# Altium integrated library ISSI SRAM Synchronous SRAM Automotive.IntLib: 614 symbols (part 55 of 71)
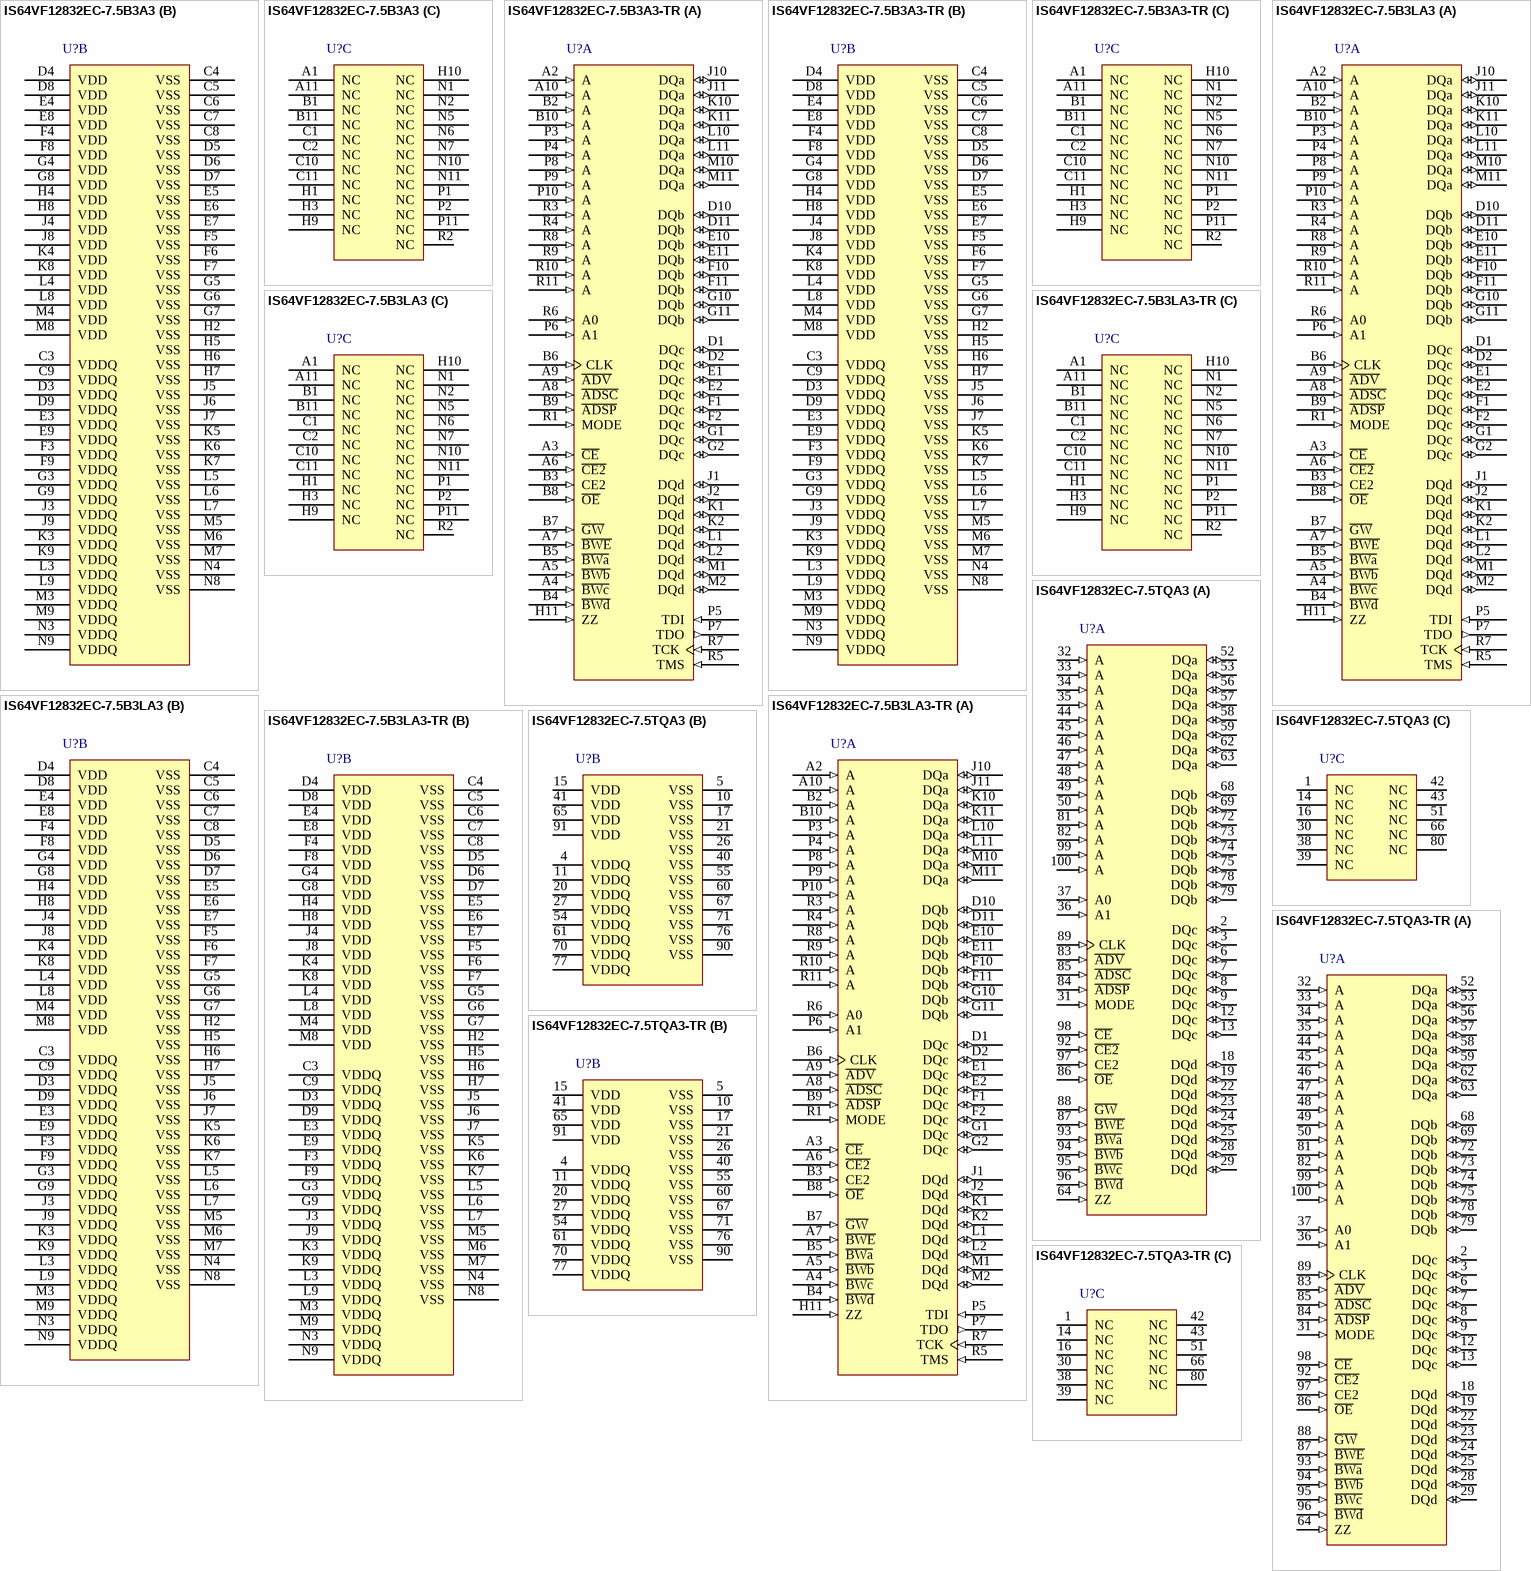
[diagram p175: symbols IS64VF12832EC-7.5B3A3 to IS64VF12832EC-7.5TQA3-TR]

## IS64VF12832EC-7.5B3A3
designator U?
4 M Synchronous Flow Through SRAM with ECC, 128 K x 32, -40 to 125 degC, 165-Pin BGA (TF-BGA-165); Manufacturer: Integrated Silicon Solution Inc (ISSI); PartNumber: IS64VF12832EC-7.5B3A3; Density: 4M; Packing: Tray / Tube; Vcc: 2.5 V; DatasheetVersion: Rev. A; PackageVersion: Rev. B, 08/2008; PackageReference: TF-BGA-165; PackageDescription: 165-Pin 13 x 15 mm TF-BGA, Pitch 1 mm; Organization: 128Kx32; VccQ: 2.5 V; Mounting Technology: Surface Mount; ComponentLink1Description: Manufacturer URL; ComponentLink1URL: http://www.issi.com/US/Index.shtml; ComponentLink2Description: Datasheet; ComponentLink2URL: http://www.issi.com/WW/pdf/61-64LF_VF12832EC-12836EC-25618EC.pdf; ComponentLink3Description: Package Specification; ComponentLink3URL: http://www.issi.com/WW/pdf/61NLP_NVP25636A_51218A.pdf
footprint ISSI-TF-BGA-165-13000X15000DE (BGA, 165-Balls, Body 15x13mm, Pitch 1mm)
part A pins: A2 A (in) "Synchronous Address Input", A3 ~{CE} (in) "Synchronous Chip Enable", A4 ~{BWc} (in) "Synchronous Byte Write Input", A5 ~{BWb} (in) "Synchronous Byte Write Input", A6 ~{CE2} (in) "Synchronous Chip Enable", A7 ~{BWE} (in) "Synchronous Byte Write Enable", A8 ~{ADSC} (in) "Synchronous Address Status Controller", A9 ~{ADV} (in) "Synchronous Burst Address Advance", A10 A (in) "Synchronous Address Input", B2 A (in) "Synchronous Address Input", B3 CE2 (in) "Synchronous Chip Enable", B4 ~{BWd} (in) "Synchronous Byte Write Input", B5 ~{BWa} (in) "Synchronous Byte Write Input", B6 CLK (in) "Synchronous Clock", B7 ~{GW} (in) "Synchronous Global Write Enable", B8 ~{OE} (in) "Asynchronous Output Enable", B9 ~{ADSP} (in) "Synchronous Address Status Processor", B10 A (in) "Synchronous Address Input", D1 DQc (io) "Synchronous Data Input/Output", D2 DQc (io) "Synchronous Data Input/Output", D10 DQb (io) "Synchronous Data Input/Output", D11 DQb (io) "Synchronous Data Input/Output", E1 DQc (io) "Synchronous Data Input/Output", E2 DQc (io) "Synchronous Data Input/Output", E10 DQb (io) "Synchronous Data Input/Output", E11 DQb (io) "Synchronous Data Input/Output", F1 DQc (io) "Synchronous Data Input/Output", F2 DQc (io) "Synchronous Data Input/Output", F10 DQb (io) "Synchronous Data Input/Output", F11 DQb (io) "Synchronous Data Input/Output", G1 DQc (io) "Synchronous Data Input/Output", G2 DQc (io) "Synchronous Data Input/Output", G10 DQb (io) "Synchronous Data Input/Output", G11 DQb (io) "Synchronous Data Input/Output", H11 ZZ (in) "Asynchronous Power Sleep Mode", J1 DQd (io) "Synchronous Data Input/Output", J2 DQd (io) "Synchronous Data Input/Output", J10 DQa (io) "Synchronous Data Input/Output", J11 DQa (io) "Synchronous Data Input/Output", K1 DQd (io) "Synchronous Data Input/Output", K2 DQd (io) "Synchronous Data Input/Output", K10 DQa (io) "Synchronous Data Input/Output", K11 DQa (io) "Synchronous Data Input/Output", L1 DQd (io) "Synchronous Data Input/Output", L2 DQd (io) "Synchronous Data Input/Output", L10 DQa (io) "Synchronous Data Input/Output", L11 DQa (io) "Synchronous Data Input/Output", M1 DQd (io) "Synchronous Data Input/Output", M2 DQd (io) "Synchronous Data Input/Output", M10 DQa (io) "Synchronous Data Input/Output", M11 DQa (io) "Synchronous Data Input/Output", P3 A (in) "Synchronous Address Input", P4 A (in) "Synchronous Address Input", P5 TDI (in) "JTAG Pins", P6 A1 (in) "Synchronous Burst Address Input", P7 TDO (out) "JTAG Pins", P8 A (in) "Synchronous Address Input", P9 A (in) "Synchronous Address Input", P10 A (in) "Synchronous Address Input", R1 MODE (in) "Burst Sequence Selection", R3 A (in) "Synchronous Address Input", R4 A (in) "Synchronous Address Input", R5 TMS (in) "JTAG Pins", R6 A0 (in) "Synchronous Burst Address Input", R7 TCK (in) "JTAG Pins", R8 A (in) "Synchronous Address Input", R9 A (in) "Synchronous Address Input", R10 A (in) "Synchronous Address Input", R11 A (in) "Synchronous Address Input"
part B pins: C3 VDDQ (power) "I/O Power Supply", C4 VSS (power) "Ground", C5 VSS (power) "Ground", C6 VSS (power) "Ground", C7 VSS (power) "Ground", C8 VSS (power) "Ground", C9 VDDQ (power) "I/O Power Supply", D3 VDDQ (power) "I/O Power Supply", D4 VDD (power) "Power Supply", D5 VSS (power) "Ground", D6 VSS (power) "Ground", D7 VSS (power) "Ground", D8 VDD (power) "Power Supply", D9 VDDQ (power) "I/O Power Supply", E3 VDDQ (power) "I/O Power Supply", E4 VDD (power) "Power Supply", E5 VSS (power) "Ground", E6 VSS (power) "Ground", E7 VSS (power) "Ground", E8 VDD (power) "Power Supply", E9 VDDQ (power) "I/O Power Supply", F3 VDDQ (power) "I/O Power Supply", F4 VDD (power) "Power Supply", F5 VSS (power) "Ground", F6 VSS (power) "Ground", F7 VSS (power) "Ground", F8 VDD (power) "Power Supply", F9 VDDQ (power) "I/O Power Supply", G3 VDDQ (power) "I/O Power Supply", G4 VDD (power) "Power Supply", G5 VSS (power) "Ground", G6 VSS (power) "Ground", G7 VSS (power) "Ground", G8 VDD (power) "Power Supply", G9 VDDQ (power) "I/O Power Supply", H2 VSS (power) "Ground", H4 VDD (power) "Power Supply", H5 VSS (power) "Ground", H6 VSS (power) "Ground", H7 VSS (power) "Ground", H8 VDD (power) "Power Supply", J3 VDDQ (power) "I/O Power Supply", J4 VDD (power) "Power Supply", J5 VSS (power) "Ground", J6 VSS (power) "Ground", J7 VSS (power) "Ground", J8 VDD (power) "Power Supply", J9 VDDQ (power) "I/O Power Supply", K3 VDDQ (power) "I/O Power Supply", K4 VDD (power) "Power Supply", K5 VSS (power) "Ground", K6 VSS (power) "Ground", K7 VSS (power) "Ground", K8 VDD (power) "Power Supply", K9 VDDQ (power) "I/O Power Supply", L3 VDDQ (power) "I/O Power Supply", L4 VDD (power) "Power Supply", L5 VSS (power) "Ground", L6 VSS (power) "Ground", L7 VSS (power) "Ground", L8 VDD (power) "Power Supply", L9 VDDQ (power) "I/O Power Supply", M3 VDDQ (power) "I/O Power Supply", M4 VDD (power) "Power Supply", M5 VSS (power) "Ground", M6 VSS (power) "Ground", M7 VSS (power) "Ground", M8 VDD (power) "Power Supply", M9 VDDQ (power) "I/O Power Supply", N3 VDDQ (power) "I/O Power Supply", N4 VSS (power) "Ground", N8 VSS (power) "Ground", N9 VDDQ (power) "I/O Power Supply"
part C pins: A1 NC "No Connect", A11 NC "No Connect", B1 NC "No Connect", B11 NC "No Connect", C1 NC "No Connect", C2 NC "No Connect", C10 NC "No Connect", C11 NC "No Connect", H1 NC "No Connect", H3 NC "No Connect", H9 NC "No Connect", H10 NC "No Connect", N1 NC "No Connect", N2 NC "No Connect", N5 NC "No Connect", N6 NC "No Connect", N7 NC "No Connect", N10 NC "No Connect", N11 NC "No Connect", P1 NC "No Connect", P2 NC "No Connect", P11 NC "No Connect", R2 NC "No Connect"

## IS64VF12832EC-7.5B3A3-TR
designator U?
4 M Synchronous Flow Through SRAM with ECC, 128 K x 32, -40 to 125 degC, 165-Pin BGA (TF-BGA-165); Manufacturer: Integrated Silicon Solution Inc (ISSI); PartNumber: IS64VF12832EC-7.5B3A3-TR; Density: 4M; Packing: Tape & Reel; Vcc: 2.5 V; DatasheetVersion: Rev. A; PackageVersion: Rev. B, 08/2008; PackageReference: TF-BGA-165; PackageDescription: 165-Pin 13 x 15 mm TF-BGA, Pitch 1 mm; Organization: 128Kx32; VccQ: 2.5 V; Mounting Technology: Surface Mount; ComponentLink1Description: Manufacturer URL; ComponentLink1URL: http://www.issi.com/US/Index.shtml; ComponentLink2Description: Datasheet; ComponentLink2URL: http://www.issi.com/WW/pdf/61-64LF_VF12832EC-12836EC-25618EC.pdf; ComponentLink3Description: Package Specification; ComponentLink3URL: http://www.issi.com/WW/pdf/61NLP_NVP25636A_51218A.pdf
footprint ISSI-TF-BGA-165-13000X15000DE (BGA, 165-Balls, Body 15x13mm, Pitch 1mm)
part A pins: A2 A (in) "Synchronous Address Input", A3 ~{CE} (in) "Synchronous Chip Enable", A4 ~{BWc} (in) "Synchronous Byte Write Input", A5 ~{BWb} (in) "Synchronous Byte Write Input", A6 ~{CE2} (in) "Synchronous Chip Enable", A7 ~{BWE} (in) "Synchronous Byte Write Enable", A8 ~{ADSC} (in) "Synchronous Address Status Controller", A9 ~{ADV} (in) "Synchronous Burst Address Advance", A10 A (in) "Synchronous Address Input", B2 A (in) "Synchronous Address Input", B3 CE2 (in) "Synchronous Chip Enable", B4 ~{BWd} (in) "Synchronous Byte Write Input", B5 ~{BWa} (in) "Synchronous Byte Write Input", B6 CLK (in) "Synchronous Clock", B7 ~{GW} (in) "Synchronous Global Write Enable", B8 ~{OE} (in) "Asynchronous Output Enable", B9 ~{ADSP} (in) "Synchronous Address Status Processor", B10 A (in) "Synchronous Address Input", D1 DQc (io) "Synchronous Data Input/Output", D2 DQc (io) "Synchronous Data Input/Output", D10 DQb (io) "Synchronous Data Input/Output", D11 DQb (io) "Synchronous Data Input/Output", E1 DQc (io) "Synchronous Data Input/Output", E2 DQc (io) "Synchronous Data Input/Output", E10 DQb (io) "Synchronous Data Input/Output", E11 DQb (io) "Synchronous Data Input/Output", F1 DQc (io) "Synchronous Data Input/Output", F2 DQc (io) "Synchronous Data Input/Output", F10 DQb (io) "Synchronous Data Input/Output", F11 DQb (io) "Synchronous Data Input/Output", G1 DQc (io) "Synchronous Data Input/Output", G2 DQc (io) "Synchronous Data Input/Output", G10 DQb (io) "Synchronous Data Input/Output", G11 DQb (io) "Synchronous Data Input/Output", H11 ZZ (in) "Asynchronous Power Sleep Mode", J1 DQd (io) "Synchronous Data Input/Output", J2 DQd (io) "Synchronous Data Input/Output", J10 DQa (io) "Synchronous Data Input/Output", J11 DQa (io) "Synchronous Data Input/Output", K1 DQd (io) "Synchronous Data Input/Output", K2 DQd (io) "Synchronous Data Input/Output", K10 DQa (io) "Synchronous Data Input/Output", K11 DQa (io) "Synchronous Data Input/Output", L1 DQd (io) "Synchronous Data Input/Output", L2 DQd (io) "Synchronous Data Input/Output", L10 DQa (io) "Synchronous Data Input/Output", L11 DQa (io) "Synchronous Data Input/Output", M1 DQd (io) "Synchronous Data Input/Output", M2 DQd (io) "Synchronous Data Input/Output", M10 DQa (io) "Synchronous Data Input/Output", M11 DQa (io) "Synchronous Data Input/Output", P3 A (in) "Synchronous Address Input", P4 A (in) "Synchronous Address Input", P5 TDI (in) "JTAG Pins", P6 A1 (in) "Synchronous Burst Address Input", P7 TDO (out) "JTAG Pins", P8 A (in) "Synchronous Address Input", P9 A (in) "Synchronous Address Input", P10 A (in) "Synchronous Address Input", R1 MODE (in) "Burst Sequence Selection", R3 A (in) "Synchronous Address Input", R4 A (in) "Synchronous Address Input", R5 TMS (in) "JTAG Pins", R6 A0 (in) "Synchronous Burst Address Input", R7 TCK (in) "JTAG Pins", R8 A (in) "Synchronous Address Input", R9 A (in) "Synchronous Address Input", R10 A (in) "Synchronous Address Input", R11 A (in) "Synchronous Address Input"
part B pins: C3 VDDQ (power) "I/O Power Supply", C4 VSS (power) "Ground", C5 VSS (power) "Ground", C6 VSS (power) "Ground", C7 VSS (power) "Ground", C8 VSS (power) "Ground", C9 VDDQ (power) "I/O Power Supply", D3 VDDQ (power) "I/O Power Supply", D4 VDD (power) "Power Supply", D5 VSS (power) "Ground", D6 VSS (power) "Ground", D7 VSS (power) "Ground", D8 VDD (power) "Power Supply", D9 VDDQ (power) "I/O Power Supply", E3 VDDQ (power) "I/O Power Supply", E4 VDD (power) "Power Supply", E5 VSS (power) "Ground", E6 VSS (power) "Ground", E7 VSS (power) "Ground", E8 VDD (power) "Power Supply", E9 VDDQ (power) "I/O Power Supply", F3 VDDQ (power) "I/O Power Supply", F4 VDD (power) "Power Supply", F5 VSS (power) "Ground", F6 VSS (power) "Ground", F7 VSS (power) "Ground", F8 VDD (power) "Power Supply", F9 VDDQ (power) "I/O Power Supply", G3 VDDQ (power) "I/O Power Supply", G4 VDD (power) "Power Supply", G5 VSS (power) "Ground", G6 VSS (power) "Ground", G7 VSS (power) "Ground", G8 VDD (power) "Power Supply", G9 VDDQ (power) "I/O Power Supply", H2 VSS (power) "Ground", H4 VDD (power) "Power Supply", H5 VSS (power) "Ground", H6 VSS (power) "Ground", H7 VSS (power) "Ground", H8 VDD (power) "Power Supply", J3 VDDQ (power) "I/O Power Supply", J4 VDD (power) "Power Supply", J5 VSS (power) "Ground", J6 VSS (power) "Ground", J7 VSS (power) "Ground", J8 VDD (power) "Power Supply", J9 VDDQ (power) "I/O Power Supply", K3 VDDQ (power) "I/O Power Supply", K4 VDD (power) "Power Supply", K5 VSS (power) "Ground", K6 VSS (power) "Ground", K7 VSS (power) "Ground", K8 VDD (power) "Power Supply", K9 VDDQ (power) "I/O Power Supply", L3 VDDQ (power) "I/O Power Supply", L4 VDD (power) "Power Supply", L5 VSS (power) "Ground", L6 VSS (power) "Ground", L7 VSS (power) "Ground", L8 VDD (power) "Power Supply", L9 VDDQ (power) "I/O Power Supply", M3 VDDQ (power) "I/O Power Supply", M4 VDD (power) "Power Supply", M5 VSS (power) "Ground", M6 VSS (power) "Ground", M7 VSS (power) "Ground", M8 VDD (power) "Power Supply", M9 VDDQ (power) "I/O Power Supply", N3 VDDQ (power) "I/O Power Supply", N4 VSS (power) "Ground", N8 VSS (power) "Ground", N9 VDDQ (power) "I/O Power Supply"
part C pins: A1 NC "No Connect", A11 NC "No Connect", B1 NC "No Connect", B11 NC "No Connect", C1 NC "No Connect", C2 NC "No Connect", C10 NC "No Connect", C11 NC "No Connect", H1 NC "No Connect", H3 NC "No Connect", H9 NC "No Connect", H10 NC "No Connect", N1 NC "No Connect", N2 NC "No Connect", N5 NC "No Connect", N6 NC "No Connect", N7 NC "No Connect", N10 NC "No Connect", N11 NC "No Connect", P1 NC "No Connect", P2 NC "No Connect", P11 NC "No Connect", R2 NC "No Connect"

## IS64VF12832EC-7.5B3LA3
designator U?
4 M Synchronous Flow Through SRAM with ECC, 128 K x 32, -40 to 125 degC, 165-Pin BGA (TF-BGA-165), Pb-Free; Manufacturer: Integrated Silicon Solution Inc (ISSI); PartNumber: IS64VF12832EC-7.5B3LA3; Density: 4M; Packing: Tray / Tube; Vcc: 2.5 V; DatasheetVersion: Rev. A; PackageVersion: Rev. B, 08/2008; PackageReference: TF-BGA-165; PackageDescription: 165-Pin 13 x 15 mm TF-BGA, Pitch 1 mm; Organization: 128Kx32; RoHS: Pb-Free; VccQ: 2.5 V; Mounting Technology: Surface Mount; ComponentLink1Description: Manufacturer URL; ComponentLink1URL: http://www.issi.com/US/Index.shtml; ComponentLink2Description: Datasheet; ComponentLink2URL: http://www.issi.com/WW/pdf/61-64LF_VF12832EC-12836EC-25618EC.pdf; ComponentLink3Description: Package Specification; ComponentLink3URL: http://www.issi.com/WW/pdf/61NLP_NVP25636A_51218A.pdf
footprint ISSI-TF-BGA-165-13000X15000DE (BGA, 165-Balls, Body 15x13mm, Pitch 1mm)
part A pins: A2 A (in) "Synchronous Address Input", A3 ~{CE} (in) "Synchronous Chip Enable", A4 ~{BWc} (in) "Synchronous Byte Write Input", A5 ~{BWb} (in) "Synchronous Byte Write Input", A6 ~{CE2} (in) "Synchronous Chip Enable", A7 ~{BWE} (in) "Synchronous Byte Write Enable", A8 ~{ADSC} (in) "Synchronous Address Status Controller", A9 ~{ADV} (in) "Synchronous Burst Address Advance", A10 A (in) "Synchronous Address Input", B2 A (in) "Synchronous Address Input", B3 CE2 (in) "Synchronous Chip Enable", B4 ~{BWd} (in) "Synchronous Byte Write Input", B5 ~{BWa} (in) "Synchronous Byte Write Input", B6 CLK (in) "Synchronous Clock", B7 ~{GW} (in) "Synchronous Global Write Enable", B8 ~{OE} (in) "Asynchronous Output Enable", B9 ~{ADSP} (in) "Synchronous Address Status Processor", B10 A (in) "Synchronous Address Input", D1 DQc (io) "Synchronous Data Input/Output", D2 DQc (io) "Synchronous Data Input/Output", D10 DQb (io) "Synchronous Data Input/Output", D11 DQb (io) "Synchronous Data Input/Output", E1 DQc (io) "Synchronous Data Input/Output", E2 DQc (io) "Synchronous Data Input/Output", E10 DQb (io) "Synchronous Data Input/Output", E11 DQb (io) "Synchronous Data Input/Output", F1 DQc (io) "Synchronous Data Input/Output", F2 DQc (io) "Synchronous Data Input/Output", F10 DQb (io) "Synchronous Data Input/Output", F11 DQb (io) "Synchronous Data Input/Output", G1 DQc (io) "Synchronous Data Input/Output", G2 DQc (io) "Synchronous Data Input/Output", G10 DQb (io) "Synchronous Data Input/Output", G11 DQb (io) "Synchronous Data Input/Output", H11 ZZ (in) "Asynchronous Power Sleep Mode", J1 DQd (io) "Synchronous Data Input/Output", J2 DQd (io) "Synchronous Data Input/Output", J10 DQa (io) "Synchronous Data Input/Output", J11 DQa (io) "Synchronous Data Input/Output", K1 DQd (io) "Synchronous Data Input/Output", K2 DQd (io) "Synchronous Data Input/Output", K10 DQa (io) "Synchronous Data Input/Output", K11 DQa (io) "Synchronous Data Input/Output", L1 DQd (io) "Synchronous Data Input/Output", L2 DQd (io) "Synchronous Data Input/Output", L10 DQa (io) "Synchronous Data Input/Output", L11 DQa (io) "Synchronous Data Input/Output", M1 DQd (io) "Synchronous Data Input/Output", M2 DQd (io) "Synchronous Data Input/Output", M10 DQa (io) "Synchronous Data Input/Output", M11 DQa (io) "Synchronous Data Input/Output", P3 A (in) "Synchronous Address Input", P4 A (in) "Synchronous Address Input", P5 TDI (in) "JTAG Pins", P6 A1 (in) "Synchronous Burst Address Input", P7 TDO (out) "JTAG Pins", P8 A (in) "Synchronous Address Input", P9 A (in) "Synchronous Address Input", P10 A (in) "Synchronous Address Input", R1 MODE (in) "Burst Sequence Selection", R3 A (in) "Synchronous Address Input", R4 A (in) "Synchronous Address Input", R5 TMS (in) "JTAG Pins", R6 A0 (in) "Synchronous Burst Address Input", R7 TCK (in) "JTAG Pins", R8 A (in) "Synchronous Address Input", R9 A (in) "Synchronous Address Input", R10 A (in) "Synchronous Address Input", R11 A (in) "Synchronous Address Input"
part B pins: C3 VDDQ (power) "I/O Power Supply", C4 VSS (power) "Ground", C5 VSS (power) "Ground", C6 VSS (power) "Ground", C7 VSS (power) "Ground", C8 VSS (power) "Ground", C9 VDDQ (power) "I/O Power Supply", D3 VDDQ (power) "I/O Power Supply", D4 VDD (power) "Power Supply", D5 VSS (power) "Ground", D6 VSS (power) "Ground", D7 VSS (power) "Ground", D8 VDD (power) "Power Supply", D9 VDDQ (power) "I/O Power Supply", E3 VDDQ (power) "I/O Power Supply", E4 VDD (power) "Power Supply", E5 VSS (power) "Ground", E6 VSS (power) "Ground", E7 VSS (power) "Ground", E8 VDD (power) "Power Supply", E9 VDDQ (power) "I/O Power Supply", F3 VDDQ (power) "I/O Power Supply", F4 VDD (power) "Power Supply", F5 VSS (power) "Ground", F6 VSS (power) "Ground", F7 VSS (power) "Ground", F8 VDD (power) "Power Supply", F9 VDDQ (power) "I/O Power Supply", G3 VDDQ (power) "I/O Power Supply", G4 VDD (power) "Power Supply", G5 VSS (power) "Ground", G6 VSS (power) "Ground", G7 VSS (power) "Ground", G8 VDD (power) "Power Supply", G9 VDDQ (power) "I/O Power Supply", H2 VSS (power) "Ground", H4 VDD (power) "Power Supply", H5 VSS (power) "Ground", H6 VSS (power) "Ground", H7 VSS (power) "Ground", H8 VDD (power) "Power Supply", J3 VDDQ (power) "I/O Power Supply", J4 VDD (power) "Power Supply", J5 VSS (power) "Ground", J6 VSS (power) "Ground", J7 VSS (power) "Ground", J8 VDD (power) "Power Supply", J9 VDDQ (power) "I/O Power Supply", K3 VDDQ (power) "I/O Power Supply", K4 VDD (power) "Power Supply", K5 VSS (power) "Ground", K6 VSS (power) "Ground", K7 VSS (power) "Ground", K8 VDD (power) "Power Supply", K9 VDDQ (power) "I/O Power Supply", L3 VDDQ (power) "I/O Power Supply", L4 VDD (power) "Power Supply", L5 VSS (power) "Ground", L6 VSS (power) "Ground", L7 VSS (power) "Ground", L8 VDD (power) "Power Supply", L9 VDDQ (power) "I/O Power Supply", M3 VDDQ (power) "I/O Power Supply", M4 VDD (power) "Power Supply", M5 VSS (power) "Ground", M6 VSS (power) "Ground", M7 VSS (power) "Ground", M8 VDD (power) "Power Supply", M9 VDDQ (power) "I/O Power Supply", N3 VDDQ (power) "I/O Power Supply", N4 VSS (power) "Ground", N8 VSS (power) "Ground", N9 VDDQ (power) "I/O Power Supply"
part C pins: A1 NC "No Connect", A11 NC "No Connect", B1 NC "No Connect", B11 NC "No Connect", C1 NC "No Connect", C2 NC "No Connect", C10 NC "No Connect", C11 NC "No Connect", H1 NC "No Connect", H3 NC "No Connect", H9 NC "No Connect", H10 NC "No Connect", N1 NC "No Connect", N2 NC "No Connect", N5 NC "No Connect", N6 NC "No Connect", N7 NC "No Connect", N10 NC "No Connect", N11 NC "No Connect", P1 NC "No Connect", P2 NC "No Connect", P11 NC "No Connect", R2 NC "No Connect"

## IS64VF12832EC-7.5B3LA3-TR
designator U?
4 M Synchronous Flow Through SRAM with ECC, 128 K x 32, -40 to 125 degC, 165-Pin BGA (TF-BGA-165), Pb-Free; Manufacturer: Integrated Silicon Solution Inc (ISSI); PartNumber: IS64VF12832EC-7.5B3LA3-TR; Density: 4M; Packing: Tape & Reel; Vcc: 2.5 V; DatasheetVersion: Rev. A; PackageVersion: Rev. B, 08/2008; PackageReference: TF-BGA-165; PackageDescription: 165-Pin 13 x 15 mm TF-BGA, Pitch 1 mm; Organization: 128Kx32; RoHS: Pb-Free; VccQ: 2.5 V; Mounting Technology: Surface Mount; ComponentLink1Description: Manufacturer URL; ComponentLink1URL: http://www.issi.com/US/Index.shtml; ComponentLink2Description: Datasheet; ComponentLink2URL: http://www.issi.com/WW/pdf/61-64LF_VF12832EC-12836EC-25618EC.pdf; ComponentLink3Description: Package Specification; ComponentLink3URL: http://www.issi.com/WW/pdf/61NLP_NVP25636A_51218A.pdf
footprint ISSI-TF-BGA-165-13000X15000DE (BGA, 165-Balls, Body 15x13mm, Pitch 1mm)
part A pins: A2 A (in) "Synchronous Address Input", A3 ~{CE} (in) "Synchronous Chip Enable", A4 ~{BWc} (in) "Synchronous Byte Write Input", A5 ~{BWb} (in) "Synchronous Byte Write Input", A6 ~{CE2} (in) "Synchronous Chip Enable", A7 ~{BWE} (in) "Synchronous Byte Write Enable", A8 ~{ADSC} (in) "Synchronous Address Status Controller", A9 ~{ADV} (in) "Synchronous Burst Address Advance", A10 A (in) "Synchronous Address Input", B2 A (in) "Synchronous Address Input", B3 CE2 (in) "Synchronous Chip Enable", B4 ~{BWd} (in) "Synchronous Byte Write Input", B5 ~{BWa} (in) "Synchronous Byte Write Input", B6 CLK (in) "Synchronous Clock", B7 ~{GW} (in) "Synchronous Global Write Enable", B8 ~{OE} (in) "Asynchronous Output Enable", B9 ~{ADSP} (in) "Synchronous Address Status Processor", B10 A (in) "Synchronous Address Input", D1 DQc (io) "Synchronous Data Input/Output", D2 DQc (io) "Synchronous Data Input/Output", D10 DQb (io) "Synchronous Data Input/Output", D11 DQb (io) "Synchronous Data Input/Output", E1 DQc (io) "Synchronous Data Input/Output", E2 DQc (io) "Synchronous Data Input/Output", E10 DQb (io) "Synchronous Data Input/Output", E11 DQb (io) "Synchronous Data Input/Output", F1 DQc (io) "Synchronous Data Input/Output", F2 DQc (io) "Synchronous Data Input/Output", F10 DQb (io) "Synchronous Data Input/Output", F11 DQb (io) "Synchronous Data Input/Output", G1 DQc (io) "Synchronous Data Input/Output", G2 DQc (io) "Synchronous Data Input/Output", G10 DQb (io) "Synchronous Data Input/Output", G11 DQb (io) "Synchronous Data Input/Output", H11 ZZ (in) "Asynchronous Power Sleep Mode", J1 DQd (io) "Synchronous Data Input/Output", J2 DQd (io) "Synchronous Data Input/Output", J10 DQa (io) "Synchronous Data Input/Output", J11 DQa (io) "Synchronous Data Input/Output", K1 DQd (io) "Synchronous Data Input/Output", K2 DQd (io) "Synchronous Data Input/Output", K10 DQa (io) "Synchronous Data Input/Output", K11 DQa (io) "Synchronous Data Input/Output", L1 DQd (io) "Synchronous Data Input/Output", L2 DQd (io) "Synchronous Data Input/Output", L10 DQa (io) "Synchronous Data Input/Output", L11 DQa (io) "Synchronous Data Input/Output", M1 DQd (io) "Synchronous Data Input/Output", M2 DQd (io) "Synchronous Data Input/Output", M10 DQa (io) "Synchronous Data Input/Output", M11 DQa (io) "Synchronous Data Input/Output", P3 A (in) "Synchronous Address Input", P4 A (in) "Synchronous Address Input", P5 TDI (in) "JTAG Pins", P6 A1 (in) "Synchronous Burst Address Input", P7 TDO (out) "JTAG Pins", P8 A (in) "Synchronous Address Input", P9 A (in) "Synchronous Address Input", P10 A (in) "Synchronous Address Input", R1 MODE (in) "Burst Sequence Selection", R3 A (in) "Synchronous Address Input", R4 A (in) "Synchronous Address Input", R5 TMS (in) "JTAG Pins", R6 A0 (in) "Synchronous Burst Address Input", R7 TCK (in) "JTAG Pins", R8 A (in) "Synchronous Address Input", R9 A (in) "Synchronous Address Input", R10 A (in) "Synchronous Address Input", R11 A (in) "Synchronous Address Input"
part B pins: C3 VDDQ (power) "I/O Power Supply", C4 VSS (power) "Ground", C5 VSS (power) "Ground", C6 VSS (power) "Ground", C7 VSS (power) "Ground", C8 VSS (power) "Ground", C9 VDDQ (power) "I/O Power Supply", D3 VDDQ (power) "I/O Power Supply", D4 VDD (power) "Power Supply", D5 VSS (power) "Ground", D6 VSS (power) "Ground", D7 VSS (power) "Ground", D8 VDD (power) "Power Supply", D9 VDDQ (power) "I/O Power Supply", E3 VDDQ (power) "I/O Power Supply", E4 VDD (power) "Power Supply", E5 VSS (power) "Ground", E6 VSS (power) "Ground", E7 VSS (power) "Ground", E8 VDD (power) "Power Supply", E9 VDDQ (power) "I/O Power Supply", F3 VDDQ (power) "I/O Power Supply", F4 VDD (power) "Power Supply", F5 VSS (power) "Ground", F6 VSS (power) "Ground", F7 VSS (power) "Ground", F8 VDD (power) "Power Supply", F9 VDDQ (power) "I/O Power Supply", G3 VDDQ (power) "I/O Power Supply", G4 VDD (power) "Power Supply", G5 VSS (power) "Ground", G6 VSS (power) "Ground", G7 VSS (power) "Ground", G8 VDD (power) "Power Supply", G9 VDDQ (power) "I/O Power Supply", H2 VSS (power) "Ground", H4 VDD (power) "Power Supply", H5 VSS (power) "Ground", H6 VSS (power) "Ground", H7 VSS (power) "Ground", H8 VDD (power) "Power Supply", J3 VDDQ (power) "I/O Power Supply", J4 VDD (power) "Power Supply", J5 VSS (power) "Ground", J6 VSS (power) "Ground", J7 VSS (power) "Ground", J8 VDD (power) "Power Supply", J9 VDDQ (power) "I/O Power Supply", K3 VDDQ (power) "I/O Power Supply", K4 VDD (power) "Power Supply", K5 VSS (power) "Ground", K6 VSS (power) "Ground", K7 VSS (power) "Ground", K8 VDD (power) "Power Supply", K9 VDDQ (power) "I/O Power Supply", L3 VDDQ (power) "I/O Power Supply", L4 VDD (power) "Power Supply", L5 VSS (power) "Ground", L6 VSS (power) "Ground", L7 VSS (power) "Ground", L8 VDD (power) "Power Supply", L9 VDDQ (power) "I/O Power Supply", M3 VDDQ (power) "I/O Power Supply", M4 VDD (power) "Power Supply", M5 VSS (power) "Ground", M6 VSS (power) "Ground", M7 VSS (power) "Ground", M8 VDD (power) "Power Supply", M9 VDDQ (power) "I/O Power Supply", N3 VDDQ (power) "I/O Power Supply", N4 VSS (power) "Ground", N8 VSS (power) "Ground", N9 VDDQ (power) "I/O Power Supply"
part C pins: A1 NC "No Connect", A11 NC "No Connect", B1 NC "No Connect", B11 NC "No Connect", C1 NC "No Connect", C2 NC "No Connect", C10 NC "No Connect", C11 NC "No Connect", H1 NC "No Connect", H3 NC "No Connect", H9 NC "No Connect", H10 NC "No Connect", N1 NC "No Connect", N2 NC "No Connect", N5 NC "No Connect", N6 NC "No Connect", N7 NC "No Connect", N10 NC "No Connect", N11 NC "No Connect", P1 NC "No Connect", P2 NC "No Connect", P11 NC "No Connect", R2 NC "No Connect"

## IS64VF12832EC-7.5TQA3
designator U?
4 M Synchronous Flow Through SRAM with ECC, 128 K x 32, -40 to 125 degC, 100-Pin QFP (TQFP-100); Manufacturer: Integrated Silicon Solution Inc (ISSI); PartNumber: IS64VF12832EC-7.5TQA3; Density: 4M; Packing: Tray / Tube; Vcc: 2.5 V; DatasheetVersion: Rev. A; PackageVersion: Rev. F, 09/2009; PackageReference: TQFP-100; PackageDescription: 100-Pin 20 x 14 mm LQFP, Pitch 0.65 mm; Organization: 128Kx32; VccQ: 2.5 V; Mounting Technology: Surface Mount; ComponentLink1Description: Manufacturer URL; ComponentLink1URL: http://www.issi.com/US/Index.shtml; ComponentLink2Description: Datasheet; ComponentLink2URL: http://www.issi.com/WW/pdf/61-64LF_VF12832EC-12836EC-25618EC.pdf; ComponentLink3Description: Package Specification; ComponentLink3URL: http://www.issi.com/WW/pdf/61VPS_LPS25636A_51218A.pdf
footprint ISSI-TQFP-100-20000X14000DE_N (QFP, 100-Leads, Body 20x14mm, Pitch 0.65mm, IPC Medium Density)
part A pins: 2 DQc (io) "Synchronous Data Input/Output", 3 DQc (io) "Synchronous Data Input/Output", 6 DQc (io) "Synchronous Data Input/Output", 7 DQc (io) "Synchronous Data Input/Output", 8 DQc (io) "Synchronous Data Input/Output", 9 DQc (io) "Synchronous Data Input/Output", 12 DQc (io) "Synchronous Data Input/Output", 13 DQc (io) "Synchronous Data Input/Output", 18 DQd (io) "Synchronous Data Input/Output", 19 DQd (io) "Synchronous Data Input/Output", 22 DQd (io) "Synchronous Data Input/Output", 23 DQd (io) "Synchronous Data Input/Output", 24 DQd (io) "Synchronous Data Input/Output", 25 DQd (io) "Synchronous Data Input/Output", 28 DQd (io) "Synchronous Data Input/Output", 29 DQd (io) "Synchronous Data Input/Output", 31 MODE (in) "Burst Sequence Selection", 32 A (in) "Synchronous Address Input", 33 A (in) "Synchronous Address Input", 34 A (in) "Synchronous Address Input", 35 A (in) "Synchronous Address Input", 36 A1 (in) "Synchronous Address Inputs. These pins must tied to the two LSBs of the address bus.", 37 A0 (in) "Synchronous Address Inputs. These pins must tied to the two LSBs of the address bus.", 44 A (in) "Synchronous Address Input", 45 A (in) "Synchronous Address Input", 46 A (in) "Synchronous Address Input", 47 A (in) "Synchronous Address Input", 48 A (in) "Synchronous Address Input", 49 A (in) "Synchronous Address Input", 50 A (in) "Synchronous Address Input", 52 DQa (io) "Synchronous Data Input/Output", 53 DQa (io) "Synchronous Data Input/Output", 56 DQa (io) "Synchronous Data Input/Output", 57 DQa (io) "Synchronous Data Input/Output", 58 DQa (io) "Synchronous Data Input/Output", 59 DQa (io) "Synchronous Data Input/Output", 62 DQa (io) "Synchronous Data Input/Output", 63 DQa (io) "Synchronous Data Input/Output", 64 ZZ (in) "Snooze Enable", 68 DQb (io) "Synchronous Data Input/Output", 69 DQb (io) "Synchronous Data Input/Output", 72 DQb (io) "Synchronous Data Input/Output", 73 DQb (io) "Synchronous Data Input/Output", 74 DQb (io) "Synchronous Data Input/Output", 75 DQb (io) "Synchronous Data Input/Output", 78 DQb (io) "Synchronous Data Input/Output", 79 DQb (io) "Synchronous Data Input/Output", 81 A (in) "Synchronous Address Input", 82 A (in) "Synchronous Address Input", 83 ~{ADV} (in) "Synchronous Burst Address Advance", 84 ~{ADSP} (in) "Synchronous Address Status Processor", 85 ~{ADSC} (in) "Synchronous Address Status Controller", 86 ~{OE} (in) "Output Enable", 87 ~{BWE} (in) "Synchronous Byte Write Enable", 88 ~{GW} (in) "Synchronous Global Write Enable", 89 CLK (in) "Synchronous Clock", 92 ~{CE2} (in) "Synchronous Chip Enable", 93 ~{BWa} (in) "Synchronous Byte Write Enable", 94 ~{BWb} (in) "Synchronous Byte Write Enable", 95 ~{BWc} (in) "Synchronous Byte Write Enable", 96 ~{BWd} (in) "Synchronous Byte Write Enable", 97 CE2 (in) "Synchronous Chip Enable", 98 ~{CE} (in) "Synchronous Chip Enable", 99 A (in) "Synchronous Address Input", 100 A (in) "Synchronous Address Input"
part B pins: 4 VDDQ (power) "I/O Power Supply", 5 VSS (power) "Ground", 10 VSS (power) "Ground", 11 VDDQ (power) "I/O Power Supply", 15 VDD (power) "Power Supply", 17 VSS (power) "Ground", 20 VDDQ (power) "I/O Power Supply", 21 VSS (power) "Ground", 26 VSS (power) "Ground", 27 VDDQ (power) "I/O Power Supply", 40 VSS (power) "Ground", 41 VDD (power) "Power Supply", 54 VDDQ (power) "I/O Power Supply", 55 VSS (power) "Ground", 60 VSS (power) "Ground", 61 VDDQ (power) "I/O Power Supply", 65 VDD (power) "Power Supply", 67 VSS (power) "Ground", 70 VDDQ (power) "I/O Power Supply", 71 VSS (power) "Ground", 76 VSS (power) "Ground", 77 VDDQ (power) "I/O Power Supply", 90 VSS (power) "Ground", 91 VDD (power) "Power Supply"
part C pins: 1 NC "No Connect", 14 NC "No Connect", 16 NC "No Connect", 30 NC "No Connect", 38 NC "No Connect", 39 NC "No Connect", 42 NC "No Connect", 43 NC "No Connect", 51 NC "No Connect", 66 NC "No Connect", 80 NC "No Connect"

## IS64VF12832EC-7.5TQA3-TR
designator U?
4 M Synchronous Flow Through SRAM with ECC, 128 K x 32, -40 to 125 degC, 100-Pin QFP (TQFP-100); Manufacturer: Integrated Silicon Solution Inc (ISSI); PartNumber: IS64VF12832EC-7.5TQA3-TR; Density: 4M; Packing: Tape & Reel; Vcc: 2.5 V; DatasheetVersion: Rev. A; PackageVersion: Rev. F, 09/2009; PackageReference: TQFP-100; PackageDescription: 100-Pin 20 x 14 mm LQFP, Pitch 0.65 mm; Organization: 128Kx32; VccQ: 2.5 V; Mounting Technology: Surface Mount; ComponentLink1Description: Manufacturer URL; ComponentLink1URL: http://www.issi.com/US/Index.shtml; ComponentLink2Description: Datasheet; ComponentLink2URL: http://www.issi.com/WW/pdf/61-64LF_VF12832EC-12836EC-25618EC.pdf; ComponentLink3Description: Package Specification; ComponentLink3URL: http://www.issi.com/WW/pdf/61VPS_LPS25636A_51218A.pdf
footprint ISSI-TQFP-100-20000X14000DE_N (QFP, 100-Leads, Body 20x14mm, Pitch 0.65mm, IPC Medium Density)
part A pins: 2 DQc (io) "Synchronous Data Input/Output", 3 DQc (io) "Synchronous Data Input/Output", 6 DQc (io) "Synchronous Data Input/Output", 7 DQc (io) "Synchronous Data Input/Output", 8 DQc (io) "Synchronous Data Input/Output", 9 DQc (io) "Synchronous Data Input/Output", 12 DQc (io) "Synchronous Data Input/Output", 13 DQc (io) "Synchronous Data Input/Output", 18 DQd (io) "Synchronous Data Input/Output", 19 DQd (io) "Synchronous Data Input/Output", 22 DQd (io) "Synchronous Data Input/Output", 23 DQd (io) "Synchronous Data Input/Output", 24 DQd (io) "Synchronous Data Input/Output", 25 DQd (io) "Synchronous Data Input/Output", 28 DQd (io) "Synchronous Data Input/Output", 29 DQd (io) "Synchronous Data Input/Output", 31 MODE (in) "Burst Sequence Selection", 32 A (in) "Synchronous Address Input", 33 A (in) "Synchronous Address Input", 34 A (in) "Synchronous Address Input", 35 A (in) "Synchronous Address Input", 36 A1 (in) "Synchronous Address Inputs. These pins must tied to the two LSBs of the address bus.", 37 A0 (in) "Synchronous Address Inputs. These pins must tied to the two LSBs of the address bus.", 44 A (in) "Synchronous Address Input", 45 A (in) "Synchronous Address Input", 46 A (in) "Synchronous Address Input", 47 A (in) "Synchronous Address Input", 48 A (in) "Synchronous Address Input", 49 A (in) "Synchronous Address Input", 50 A (in) "Synchronous Address Input", 52 DQa (io) "Synchronous Data Input/Output", 53 DQa (io) "Synchronous Data Input/Output", 56 DQa (io) "Synchronous Data Input/Output", 57 DQa (io) "Synchronous Data Input/Output", 58 DQa (io) "Synchronous Data Input/Output", 59 DQa (io) "Synchronous Data Input/Output", 62 DQa (io) "Synchronous Data Input/Output", 63 DQa (io) "Synchronous Data Input/Output", 64 ZZ (in) "Snooze Enable", 68 DQb (io) "Synchronous Data Input/Output", 69 DQb (io) "Synchronous Data Input/Output", 72 DQb (io) "Synchronous Data Input/Output", 73 DQb (io) "Synchronous Data Input/Output", 74 DQb (io) "Synchronous Data Input/Output", 75 DQb (io) "Synchronous Data Input/Output", 78 DQb (io) "Synchronous Data Input/Output", 79 DQb (io) "Synchronous Data Input/Output", 81 A (in) "Synchronous Address Input", 82 A (in) "Synchronous Address Input", 83 ~{ADV} (in) "Synchronous Burst Address Advance", 84 ~{ADSP} (in) "Synchronous Address Status Processor", 85 ~{ADSC} (in) "Synchronous Address Status Controller", 86 ~{OE} (in) "Output Enable", 87 ~{BWE} (in) "Synchronous Byte Write Enable", 88 ~{GW} (in) "Synchronous Global Write Enable", 89 CLK (in) "Synchronous Clock", 92 ~{CE2} (in) "Synchronous Chip Enable", 93 ~{BWa} (in) "Synchronous Byte Write Enable", 94 ~{BWb} (in) "Synchronous Byte Write Enable", 95 ~{BWc} (in) "Synchronous Byte Write Enable", 96 ~{BWd} (in) "Synchronous Byte Write Enable", 97 CE2 (in) "Synchronous Chip Enable", 98 ~{CE} (in) "Synchronous Chip Enable", 99 A (in) "Synchronous Address Input", 100 A (in) "Synchronous Address Input"
part B pins: 4 VDDQ (power) "I/O Power Supply", 5 VSS (power) "Ground", 10 VSS (power) "Ground", 11 VDDQ (power) "I/O Power Supply", 15 VDD (power) "Power Supply", 17 VSS (power) "Ground", 20 VDDQ (power) "I/O Power Supply", 21 VSS (power) "Ground", 26 VSS (power) "Ground", 27 VDDQ (power) "I/O Power Supply", 40 VSS (power) "Ground", 41 VDD (power) "Power Supply", 54 VDDQ (power) "I/O Power Supply", 55 VSS (power) "Ground", 60 VSS (power) "Ground", 61 VDDQ (power) "I/O Power Supply", 65 VDD (power) "Power Supply", 67 VSS (power) "Ground", 70 VDDQ (power) "I/O Power Supply", 71 VSS (power) "Ground", 76 VSS (power) "Ground", 77 VDDQ (power) "I/O Power Supply", 90 VSS (power) "Ground", 91 VDD (power) "Power Supply"
part C pins: 1 NC "No Connect", 14 NC "No Connect", 16 NC "No Connect", 30 NC "No Connect", 38 NC "No Connect", 39 NC "No Connect", 42 NC "No Connect", 43 NC "No Connect", 51 NC "No Connect", 66 NC "No Connect", 80 NC "No Connect"

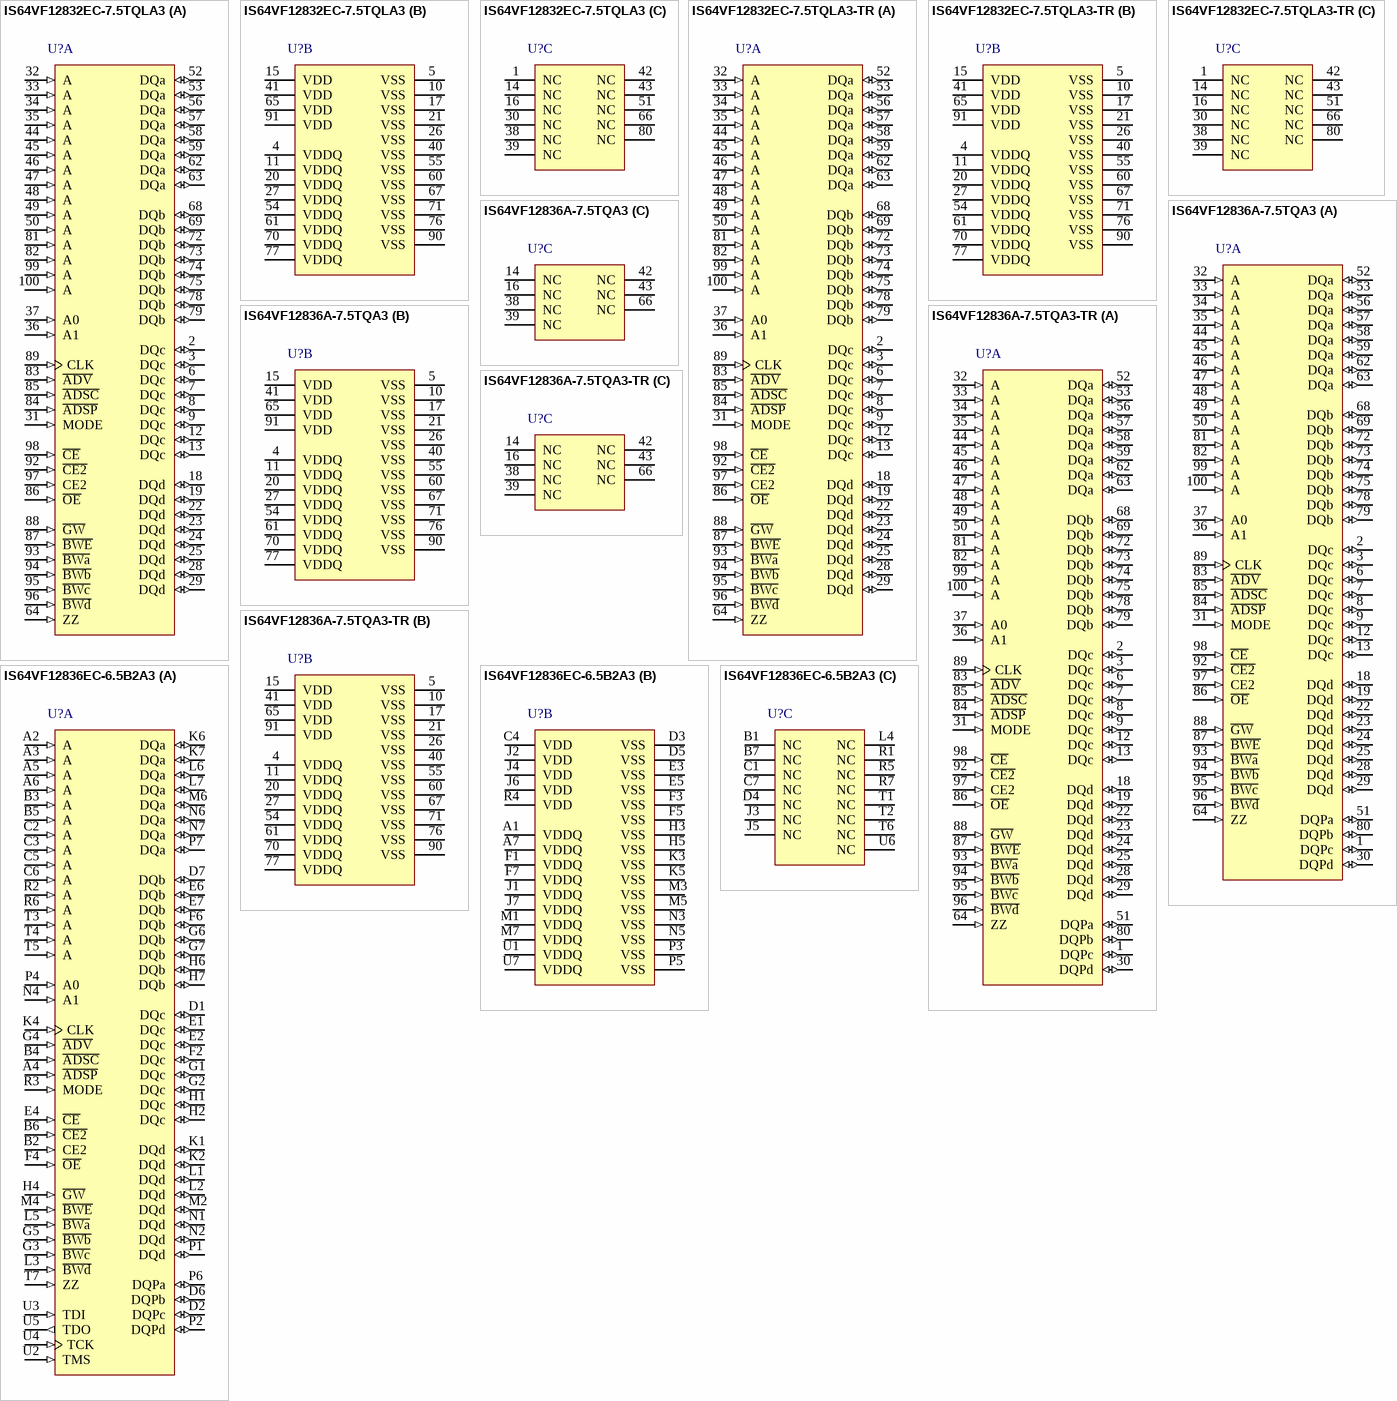
[diagram p95: symbols IS64VF12832EC-7.5TQLA3 to IS64VF12836EC-6.5B2A3]

## IS64VF12832EC-7.5TQLA3
designator U?
4 M Synchronous Flow Through SRAM with ECC, 128 K x 32, -40 to 125 degC, 100-Pin QFP (TQFP-100), Pb-Free; Manufacturer: Integrated Silicon Solution Inc (ISSI); PartNumber: IS64VF12832EC-7.5TQLA3; Density: 4M; Packing: Tray / Tube; Vcc: 2.5 V; DatasheetVersion: Rev. A; PackageVersion: Rev. F, 09/2009; PackageReference: TQFP-100; PackageDescription: 100-Pin 20 x 14 mm LQFP, Pitch 0.65 mm; Organization: 128Kx32; RoHS: Pb-Free; VccQ: 2.5 V; Mounting Technology: Surface Mount; ComponentLink1Description: Manufacturer URL; ComponentLink1URL: http://www.issi.com/US/Index.shtml; ComponentLink2Description: Datasheet; ComponentLink2URL: http://www.issi.com/WW/pdf/61-64LF_VF12832EC-12836EC-25618EC.pdf; ComponentLink3Description: Package Specification; ComponentLink3URL: http://www.issi.com/WW/pdf/61VPS_LPS25636A_51218A.pdf
footprint ISSI-TQFP-100-20000X14000DE_N (QFP, 100-Leads, Body 20x14mm, Pitch 0.65mm, IPC Medium Density)
part A pins: 2 DQc (io) "Synchronous Data Input/Output", 3 DQc (io) "Synchronous Data Input/Output", 6 DQc (io) "Synchronous Data Input/Output", 7 DQc (io) "Synchronous Data Input/Output", 8 DQc (io) "Synchronous Data Input/Output", 9 DQc (io) "Synchronous Data Input/Output", 12 DQc (io) "Synchronous Data Input/Output", 13 DQc (io) "Synchronous Data Input/Output", 18 DQd (io) "Synchronous Data Input/Output", 19 DQd (io) "Synchronous Data Input/Output", 22 DQd (io) "Synchronous Data Input/Output", 23 DQd (io) "Synchronous Data Input/Output", 24 DQd (io) "Synchronous Data Input/Output", 25 DQd (io) "Synchronous Data Input/Output", 28 DQd (io) "Synchronous Data Input/Output", 29 DQd (io) "Synchronous Data Input/Output", 31 MODE (in) "Burst Sequence Selection", 32 A (in) "Synchronous Address Input", 33 A (in) "Synchronous Address Input", 34 A (in) "Synchronous Address Input", 35 A (in) "Synchronous Address Input", 36 A1 (in) "Synchronous Address Inputs. These pins must tied to the two LSBs of the address bus.", 37 A0 (in) "Synchronous Address Inputs. These pins must tied to the two LSBs of the address bus.", 44 A (in) "Synchronous Address Input", 45 A (in) "Synchronous Address Input", 46 A (in) "Synchronous Address Input", 47 A (in) "Synchronous Address Input", 48 A (in) "Synchronous Address Input", 49 A (in) "Synchronous Address Input", 50 A (in) "Synchronous Address Input", 52 DQa (io) "Synchronous Data Input/Output", 53 DQa (io) "Synchronous Data Input/Output", 56 DQa (io) "Synchronous Data Input/Output", 57 DQa (io) "Synchronous Data Input/Output", 58 DQa (io) "Synchronous Data Input/Output", 59 DQa (io) "Synchronous Data Input/Output", 62 DQa (io) "Synchronous Data Input/Output", 63 DQa (io) "Synchronous Data Input/Output", 64 ZZ (in) "Snooze Enable", 68 DQb (io) "Synchronous Data Input/Output", 69 DQb (io) "Synchronous Data Input/Output", 72 DQb (io) "Synchronous Data Input/Output", 73 DQb (io) "Synchronous Data Input/Output", 74 DQb (io) "Synchronous Data Input/Output", 75 DQb (io) "Synchronous Data Input/Output", 78 DQb (io) "Synchronous Data Input/Output", 79 DQb (io) "Synchronous Data Input/Output", 81 A (in) "Synchronous Address Input", 82 A (in) "Synchronous Address Input", 83 ~{ADV} (in) "Synchronous Burst Address Advance", 84 ~{ADSP} (in) "Synchronous Address Status Processor", 85 ~{ADSC} (in) "Synchronous Address Status Controller", 86 ~{OE} (in) "Output Enable", 87 ~{BWE} (in) "Synchronous Byte Write Enable", 88 ~{GW} (in) "Synchronous Global Write Enable", 89 CLK (in) "Synchronous Clock", 92 ~{CE2} (in) "Synchronous Chip Enable", 93 ~{BWa} (in) "Synchronous Byte Write Enable", 94 ~{BWb} (in) "Synchronous Byte Write Enable", 95 ~{BWc} (in) "Synchronous Byte Write Enable", 96 ~{BWd} (in) "Synchronous Byte Write Enable", 97 CE2 (in) "Synchronous Chip Enable", 98 ~{CE} (in) "Synchronous Chip Enable", 99 A (in) "Synchronous Address Input", 100 A (in) "Synchronous Address Input"
part B pins: 4 VDDQ (power) "I/O Power Supply", 5 VSS (power) "Ground", 10 VSS (power) "Ground", 11 VDDQ (power) "I/O Power Supply", 15 VDD (power) "Power Supply", 17 VSS (power) "Ground", 20 VDDQ (power) "I/O Power Supply", 21 VSS (power) "Ground", 26 VSS (power) "Ground", 27 VDDQ (power) "I/O Power Supply", 40 VSS (power) "Ground", 41 VDD (power) "Power Supply", 54 VDDQ (power) "I/O Power Supply", 55 VSS (power) "Ground", 60 VSS (power) "Ground", 61 VDDQ (power) "I/O Power Supply", 65 VDD (power) "Power Supply", 67 VSS (power) "Ground", 70 VDDQ (power) "I/O Power Supply", 71 VSS (power) "Ground", 76 VSS (power) "Ground", 77 VDDQ (power) "I/O Power Supply", 90 VSS (power) "Ground", 91 VDD (power) "Power Supply"
part C pins: 1 NC "No Connect", 14 NC "No Connect", 16 NC "No Connect", 30 NC "No Connect", 38 NC "No Connect", 39 NC "No Connect", 42 NC "No Connect", 43 NC "No Connect", 51 NC "No Connect", 66 NC "No Connect", 80 NC "No Connect"

## IS64VF12832EC-7.5TQLA3-TR
designator U?
4 M Synchronous Flow Through SRAM with ECC, 128 K x 32, -40 to 125 degC, 100-Pin QFP (TQFP-100), Pb-Free; Manufacturer: Integrated Silicon Solution Inc (ISSI); PartNumber: IS64VF12832EC-7.5TQLA3-TR; Density: 4M; Packing: Tape & Reel; Vcc: 2.5 V; DatasheetVersion: Rev. A; PackageVersion: Rev. F, 09/2009; PackageReference: TQFP-100; PackageDescription: 100-Pin 20 x 14 mm LQFP, Pitch 0.65 mm; Organization: 128Kx32; RoHS: Pb-Free; VccQ: 2.5 V; Mounting Technology: Surface Mount; ComponentLink1Description: Manufacturer URL; ComponentLink1URL: http://www.issi.com/US/Index.shtml; ComponentLink2Description: Datasheet; ComponentLink2URL: http://www.issi.com/WW/pdf/61-64LF_VF12832EC-12836EC-25618EC.pdf; ComponentLink3Description: Package Specification; ComponentLink3URL: http://www.issi.com/WW/pdf/61VPS_LPS25636A_51218A.pdf
footprint ISSI-TQFP-100-20000X14000DE_N (QFP, 100-Leads, Body 20x14mm, Pitch 0.65mm, IPC Medium Density)
part A pins: 2 DQc (io) "Synchronous Data Input/Output", 3 DQc (io) "Synchronous Data Input/Output", 6 DQc (io) "Synchronous Data Input/Output", 7 DQc (io) "Synchronous Data Input/Output", 8 DQc (io) "Synchronous Data Input/Output", 9 DQc (io) "Synchronous Data Input/Output", 12 DQc (io) "Synchronous Data Input/Output", 13 DQc (io) "Synchronous Data Input/Output", 18 DQd (io) "Synchronous Data Input/Output", 19 DQd (io) "Synchronous Data Input/Output", 22 DQd (io) "Synchronous Data Input/Output", 23 DQd (io) "Synchronous Data Input/Output", 24 DQd (io) "Synchronous Data Input/Output", 25 DQd (io) "Synchronous Data Input/Output", 28 DQd (io) "Synchronous Data Input/Output", 29 DQd (io) "Synchronous Data Input/Output", 31 MODE (in) "Burst Sequence Selection", 32 A (in) "Synchronous Address Input", 33 A (in) "Synchronous Address Input", 34 A (in) "Synchronous Address Input", 35 A (in) "Synchronous Address Input", 36 A1 (in) "Synchronous Address Inputs. These pins must tied to the two LSBs of the address bus.", 37 A0 (in) "Synchronous Address Inputs. These pins must tied to the two LSBs of the address bus.", 44 A (in) "Synchronous Address Input", 45 A (in) "Synchronous Address Input", 46 A (in) "Synchronous Address Input", 47 A (in) "Synchronous Address Input", 48 A (in) "Synchronous Address Input", 49 A (in) "Synchronous Address Input", 50 A (in) "Synchronous Address Input", 52 DQa (io) "Synchronous Data Input/Output", 53 DQa (io) "Synchronous Data Input/Output", 56 DQa (io) "Synchronous Data Input/Output", 57 DQa (io) "Synchronous Data Input/Output", 58 DQa (io) "Synchronous Data Input/Output", 59 DQa (io) "Synchronous Data Input/Output", 62 DQa (io) "Synchronous Data Input/Output", 63 DQa (io) "Synchronous Data Input/Output", 64 ZZ (in) "Snooze Enable", 68 DQb (io) "Synchronous Data Input/Output", 69 DQb (io) "Synchronous Data Input/Output", 72 DQb (io) "Synchronous Data Input/Output", 73 DQb (io) "Synchronous Data Input/Output", 74 DQb (io) "Synchronous Data Input/Output", 75 DQb (io) "Synchronous Data Input/Output", 78 DQb (io) "Synchronous Data Input/Output", 79 DQb (io) "Synchronous Data Input/Output", 81 A (in) "Synchronous Address Input", 82 A (in) "Synchronous Address Input", 83 ~{ADV} (in) "Synchronous Burst Address Advance", 84 ~{ADSP} (in) "Synchronous Address Status Processor", 85 ~{ADSC} (in) "Synchronous Address Status Controller", 86 ~{OE} (in) "Output Enable", 87 ~{BWE} (in) "Synchronous Byte Write Enable", 88 ~{GW} (in) "Synchronous Global Write Enable", 89 CLK (in) "Synchronous Clock", 92 ~{CE2} (in) "Synchronous Chip Enable", 93 ~{BWa} (in) "Synchronous Byte Write Enable", 94 ~{BWb} (in) "Synchronous Byte Write Enable", 95 ~{BWc} (in) "Synchronous Byte Write Enable", 96 ~{BWd} (in) "Synchronous Byte Write Enable", 97 CE2 (in) "Synchronous Chip Enable", 98 ~{CE} (in) "Synchronous Chip Enable", 99 A (in) "Synchronous Address Input", 100 A (in) "Synchronous Address Input"
part B pins: 4 VDDQ (power) "I/O Power Supply", 5 VSS (power) "Ground", 10 VSS (power) "Ground", 11 VDDQ (power) "I/O Power Supply", 15 VDD (power) "Power Supply", 17 VSS (power) "Ground", 20 VDDQ (power) "I/O Power Supply", 21 VSS (power) "Ground", 26 VSS (power) "Ground", 27 VDDQ (power) "I/O Power Supply", 40 VSS (power) "Ground", 41 VDD (power) "Power Supply", 54 VDDQ (power) "I/O Power Supply", 55 VSS (power) "Ground", 60 VSS (power) "Ground", 61 VDDQ (power) "I/O Power Supply", 65 VDD (power) "Power Supply", 67 VSS (power) "Ground", 70 VDDQ (power) "I/O Power Supply", 71 VSS (power) "Ground", 76 VSS (power) "Ground", 77 VDDQ (power) "I/O Power Supply", 90 VSS (power) "Ground", 91 VDD (power) "Power Supply"
part C pins: 1 NC "No Connect", 14 NC "No Connect", 16 NC "No Connect", 30 NC "No Connect", 38 NC "No Connect", 39 NC "No Connect", 42 NC "No Connect", 43 NC "No Connect", 51 NC "No Connect", 66 NC "No Connect", 80 NC "No Connect"